# Altium schematic symbol library RY1303.SchLib: 1 symbol
Pins are listed as number, name and electrical type; pins without a type are passive.

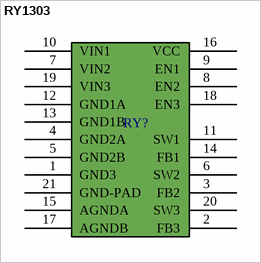
[diagram p0: symbol RY1303]

## RY1303
designator RY?  (value not drawn)
3 channel buck converter
footprint RY1303
pins: 1 GND3, 2 FB3, 3 FB2, 4 GND2A, 5 GND2B, 6 SW2, 7 VIN2, 8 EN2, 9 EN1, 10 VIN1, 11 SW1, 12 GND1A, 13 GND1B, 14 FB1, 15 AGNDA, 16 VCC, 17 AGNDB, 18 EN3, 19 VIN3, 20 SW3, 21 GND-PAD